# EAGLE library part DERFMEGA128-22M12 (library deRFmodules)
deRFmega128 IEEE 802.15.4 Low Power Wireless Radio Module Microcontroller: Atmel ATmega128RFA1 Transceiver: integrated RF-Frontend: PA-LNA, antenna diversity support Manufacturer: dresden elektronik ingenieurtechnik gmbh Website: http://www.dresden-elektronik.de
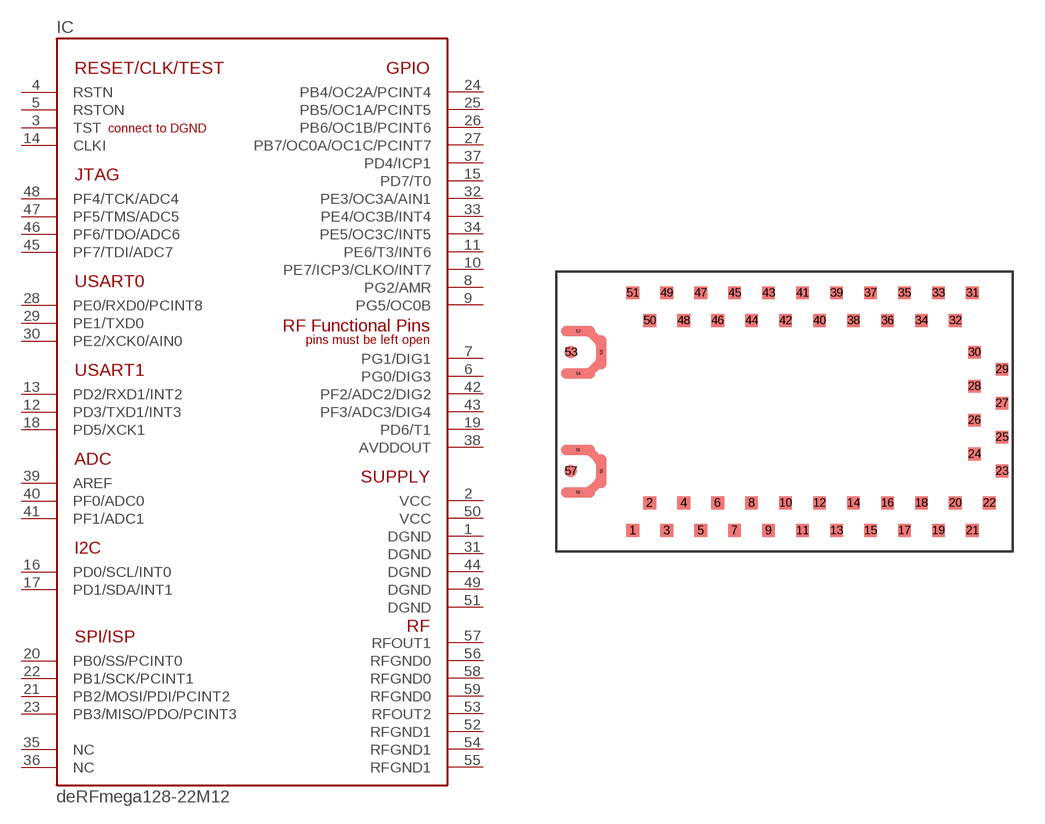
[diagram p4: symbol with the pads of A-M12; footprint A-M12]

Designator prefix IC

## DERFMEGA128-22M12  [A-M12]
1  DGND  sup
2  VCC  sup
3  TST  in
4  RSTN  in
5  RSTON  out
6  PG0/DIG3  out
7  PG1/DIG1  out
8  PG2/AMR
9  PG5/OC0B
10  PE7/ICP3/CLKO/INT7
11  PE6/T3/INT6
12  PD3/TXD1/INT3
13  PD2/RXD1/INT2
14  CLKI  in
15  PD7/T0
16  PD0/SCL/INT0
17  PD1/SDA/INT1
18  PD5/XCK1
19  PD6/T1  out
20  PB0/SS/PCINT0
21  PB2/MOSI/PDI/PCINT2
22  PB1/SCK/PCINT1
23  PB3/MISO/PDO/PCINT3
24  PB4/OC2A/PCINT4
25  PB5/OC1A/PCINT5
26  PB6/OC1B/PCINT6
27  PB7/OC0A/OC1C/PCINT7
28  PE0/RXD0/PCINT8
29  PE1/TXD0
30  PE2/XCK0/AIN0
31  DGND  sup
32  PE3/OC3A/AIN1
33  PE4/OC3B/INT4
34  PE5/OC3C/INT5
35  NC  nc
36  NC  nc
37  PD4/ICP1
38  AVDDOUT  out
39  AREF
40  PF0/ADC0
41  PF1/ADC1
42  PF2/ADC2/DIG2  out
43  PF3/ADC3/DIG4  out
44  DGND  sup
45  PF7/TDI/ADC7
46  PF6/TDO/ADC6
47  PF5/TMS/ADC5
48  PF4/TCK/ADC4
49  DGND  sup
50  VCC  sup
51  DGND  sup
52  RFGND1  sup
53  RFOUT2  sup
54  RFGND1  sup
55  RFGND1  sup
56  RFGND0  sup
57  RFOUT1  sup
58  RFGND0  sup
59  RFGND0  sup

## Footprint A-M12 (pad centres in mm)
59pin LGA package, pitch 0.8mm
smd 0.6 x 0.6: 1 -7.15,-5.6; 2 -6.35,-4.3; 3 -5.55,-5.6; 4 -4.75,-4.3; 5 -3.95,-5.6; 6 -3.15,-4.3; 7 -2.35,-5.6; 8 -1.55,-4.3; 9 -0.75,-5.6; 10 0.05,-4.3; 11 0.85,-5.6; 12 1.65,-4.3; 13 2.45,-5.6; 14 3.25,-4.3; 15 4.05,-5.6; 16 4.85,-4.3; 17 5.65,-5.6; 18 6.45,-4.3; 19 7.25,-5.6; 20 8.05,-4.3; 21 8.85,-5.6; 22 9.65,-4.3; 23 10.25,-2.8; 24 8.95,-2; 25 10.25,-1.2; 26 8.95,-0.4; 27 10.25,0.4; 28 8.95,1.2; 29 10.25,2; 30 8.95,2.8; 31 8.85,5.6; 32 8.05,4.3; 33 7.25,5.6; 34 6.45,4.3; 35 5.65,5.6; 36 4.85,4.3; 37 4.05,5.6; 38 3.25,4.3; 39 2.45,5.6; 40 1.65,4.3; 41 0.85,5.6; 42 0.05,4.3; 43 -0.75,5.6; 44 -1.55,4.3; 45 -2.35,5.6; 46 -3.15,4.3; 47 -3.95,5.6; 48 -4.75,4.3; 49 -5.55,5.6; 50 -6.35,4.3; 51 -7.15,5.6; 53 -10.065,2.8; 57 -10.065,-2.8
smd 1.3 x 0.2: 52 -9.725,3.8; 54 -9.725,1.8; 56 -9.725,-1.8; 58 -9.725,-3.8
smd 0.2 x 1.3: 55 -8.625,2.8; 59 -8.625,-2.8